# Altium footprint library VZ4TH5B0191760L.PcbLib: 1 footprints
Each footprint in its own frame and in the unit in brackets; x right, y up, seen from the top. Pads: shape width x height; smd on the part's side, far side on the other; paste and mask are expansions set on the pad; w line width, h text height; cw(c..) or ccw(c..) is an arc to the next point about the centre after c.
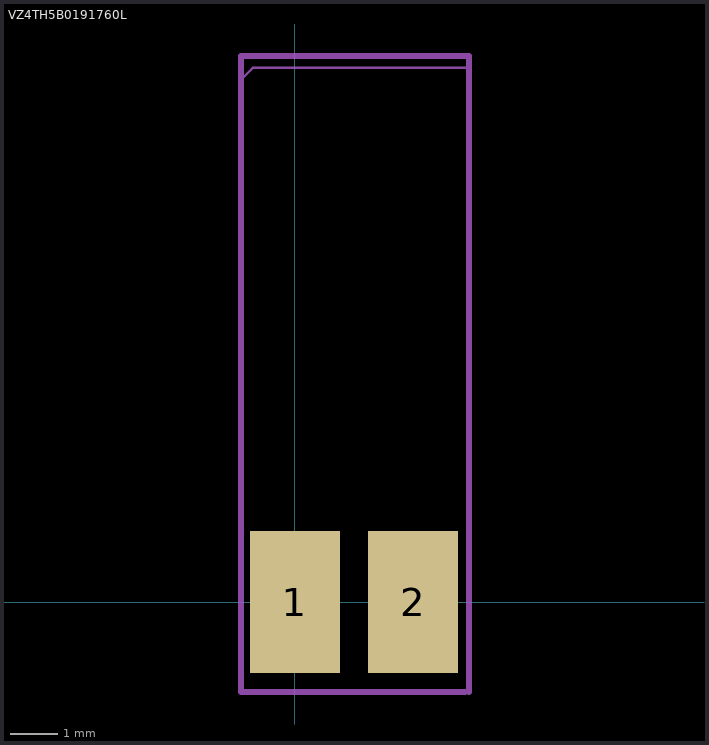
[diagram p0: the footprint, top view; thin cyan lines are the x and y axes]

## VZ4TH5B0191760L [mm] "Vibration Motor"
pads (2):
  rect 1.9x3 smd: 1(0,0) 2(2.5,0)
Mechanical 13:
  lines w0.127: 3.6,-1.905 -1.143,-1.905 -1.143,11.557 3.683,11.557 3.683,-1.905
Mechanical 15:
  lines w0.05: -1.143,-1.905 -1.143,11.049 -0.889,11.303 3.683,11.303 3.683,-1.905 -1.143,-1.905